# EAGLE library part FPC-50WAY (library pimoroni-fpc)
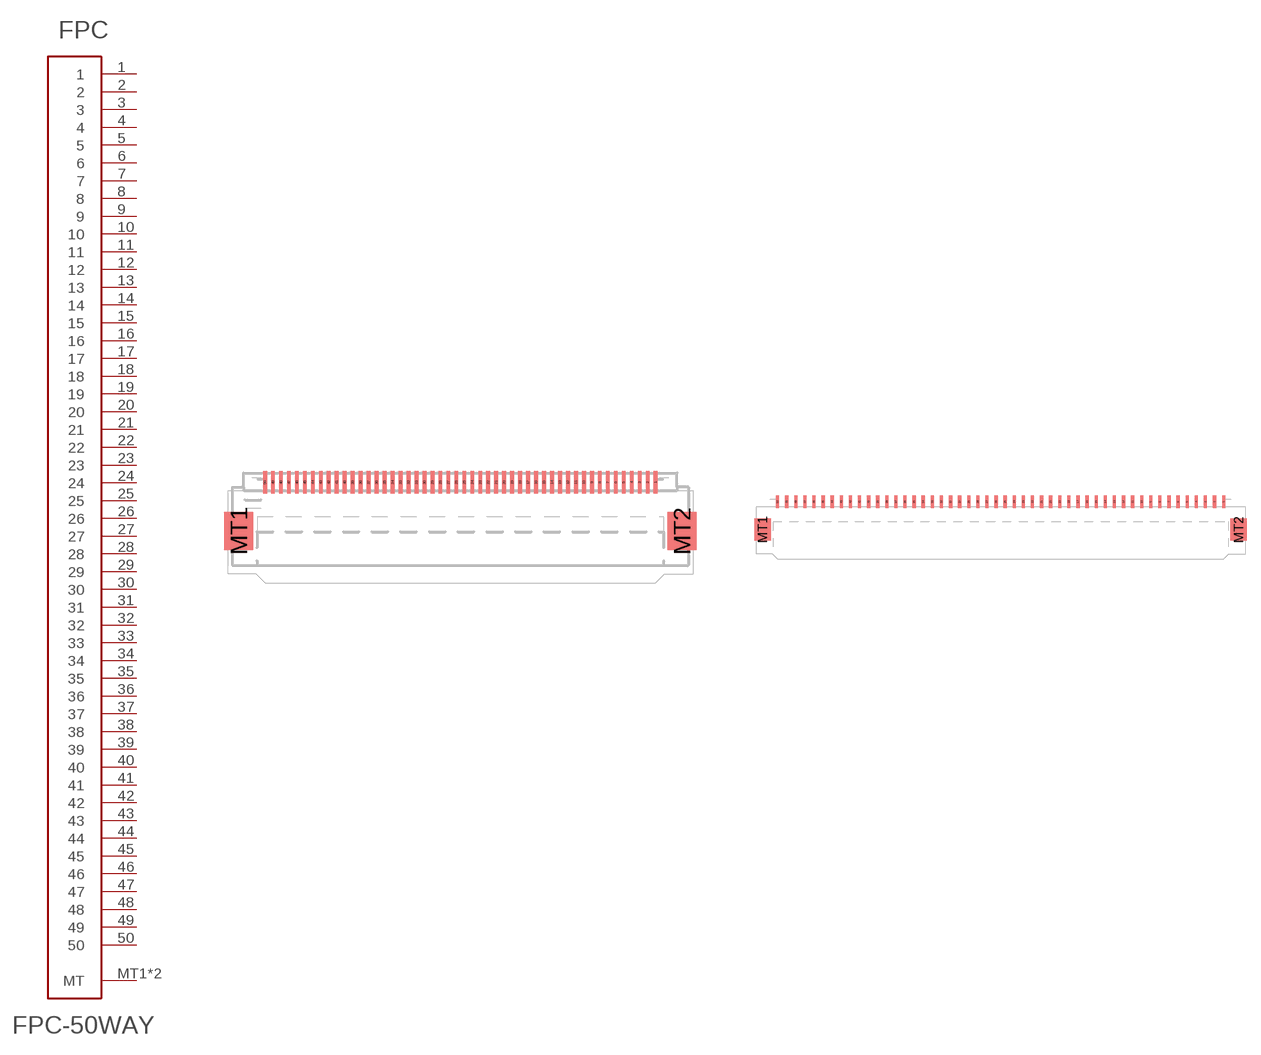
[diagram p45: symbol with the pads of FPC-0.5MM-50WAY; footprints FPC-0.5MM-50WAY, FPC-1.0MM-50WAY]

Designator prefix FPC

## FPC-50WAY0.5  [FPC-0.5MM-50WAY]
1  1
2  2
3  3
4  4
5  5
6  6
7  7
8  8
9  9
10  10
11  11
12  12
13  13
14  14
15  15
16  16
17  17
18  18
19  19
20  20
21  21
22  22
23  23
24  24
25  25
26  26
27  27
28  28
29  29
30  30
31  31
32  32
33  33
34  34
35  35
36  36
37  37
38  38
39  39
40  40
41  41
42  42
43  43
44  44
45  45
46  46
47  47
48  48
49  49
50  50
MT1  MT
MT2  MT

## FPC-50WAY1.0  [FPC-1.0MM-50WAY]
Pads as for FPC-0.5MM-50WAY

## Footprint FPC-0.5MM-50WAY (pad centres in mm)
smd 0.24 x 1.4: 1 12.25,0.7; 2 11.75,0.7; 3 11.25,0.7; 4 10.75,0.7; 5 10.25,0.7; 6 9.75,0.7; 7 9.25,0.7; 8 8.75,0.7; 9 8.25,0.7; 10 7.75,0.7; 11 7.25,0.7; 12 6.75,0.7; 13 6.25,0.7; 14 5.75,0.7; 15 5.25,0.7; 16 4.75,0.7; 17 4.25,0.7; 18 3.75,0.7; 19 3.25,0.7; 20 2.75,0.7; 21 2.25,0.7; 22 1.75,0.7; 23 1.25,0.7; 24 0.75,0.7; 25 0.25,0.7; 26 -0.25,0.7; 27 -0.75,0.7; 28 -1.25,0.7; 29 -1.75,0.7; 30 -2.25,0.7; 31 -2.75,0.7; 32 -3.25,0.7; 33 -3.75,0.7; 34 -4.25,0.7; 35 -4.75,0.7; 36 -5.25,0.7; 37 -5.75,0.7; 38 -6.25,0.7; 39 -6.75,0.7; 40 -7.25,0.7; 41 -7.75,0.7; 42 -8.25,0.7; 43 -8.75,0.7; 44 -9.25,0.7; 45 -9.75,0.7; 46 -10.25,0.7; 47 -10.75,0.7; 48 -11.25,0.7; 49 -11.75,0.7; 50 -12.25,0.7
smd 1.8 x 2.4: MT1 -13.9,-2.35; MT2 13.9,-2.35

## Footprint FPC-1.0MM-50WAY (pad centres in mm)
smd 0.35 x 1.4: 1 24.5,0.7; 2 23.5,0.7; 3 22.5,0.7; 4 21.5,0.7; 5 20.5,0.7; 6 19.5,0.7; 7 18.5,0.7; 8 17.5,0.7; 9 16.5,0.7; 10 15.5,0.7; 11 14.5,0.7; 12 13.5,0.7; 13 12.5,0.7; 14 11.5,0.7; 15 10.5,0.7; 16 9.5,0.7; 17 8.5,0.7; 18 7.5,0.7; 19 6.5,0.7; 20 5.5,0.7; 21 4.5,0.7; 22 3.5,0.7; 23 2.5,0.7; 24 1.5,0.7; 25 0.5,0.7; 26 -0.5,0.7; 27 -1.5,0.7; 28 -2.5,0.7; 29 -3.5,0.7; 30 -4.5,0.7; 31 -5.5,0.7; 32 -6.5,0.7; 33 -7.5,0.7; 34 -8.5,0.7; 35 -9.5,0.7; 36 -10.5,0.7; 37 -11.5,0.7; 38 -12.5,0.7; 39 -13.5,0.7; 40 -14.5,0.7; 41 -15.5,0.7; 42 -16.5,0.7; 43 -17.5,0.7; 44 -18.5,0.7; 45 -19.5,0.7; 46 -20.5,0.7; 47 -21.5,0.7; 48 -22.5,0.7; 49 -23.5,0.7; 50 -24.5,0.7
smd 1.8 x 2.4: MT1 -26.15,-2.35; MT2 26.15,-2.35